# Altium footprint library Chip_kz85.PcbLib: 312 footprints (part 6 of 20)
Each footprint in its own frame and in the unit in brackets; x right, y up, seen from the top. Pads: shape width x height; smd on the part's side, far side on the other; paste and mask are expansions set on the pad; w line width, h text height; cw(c..) or ccw(c..) is an arc to the next point about the centre after c.
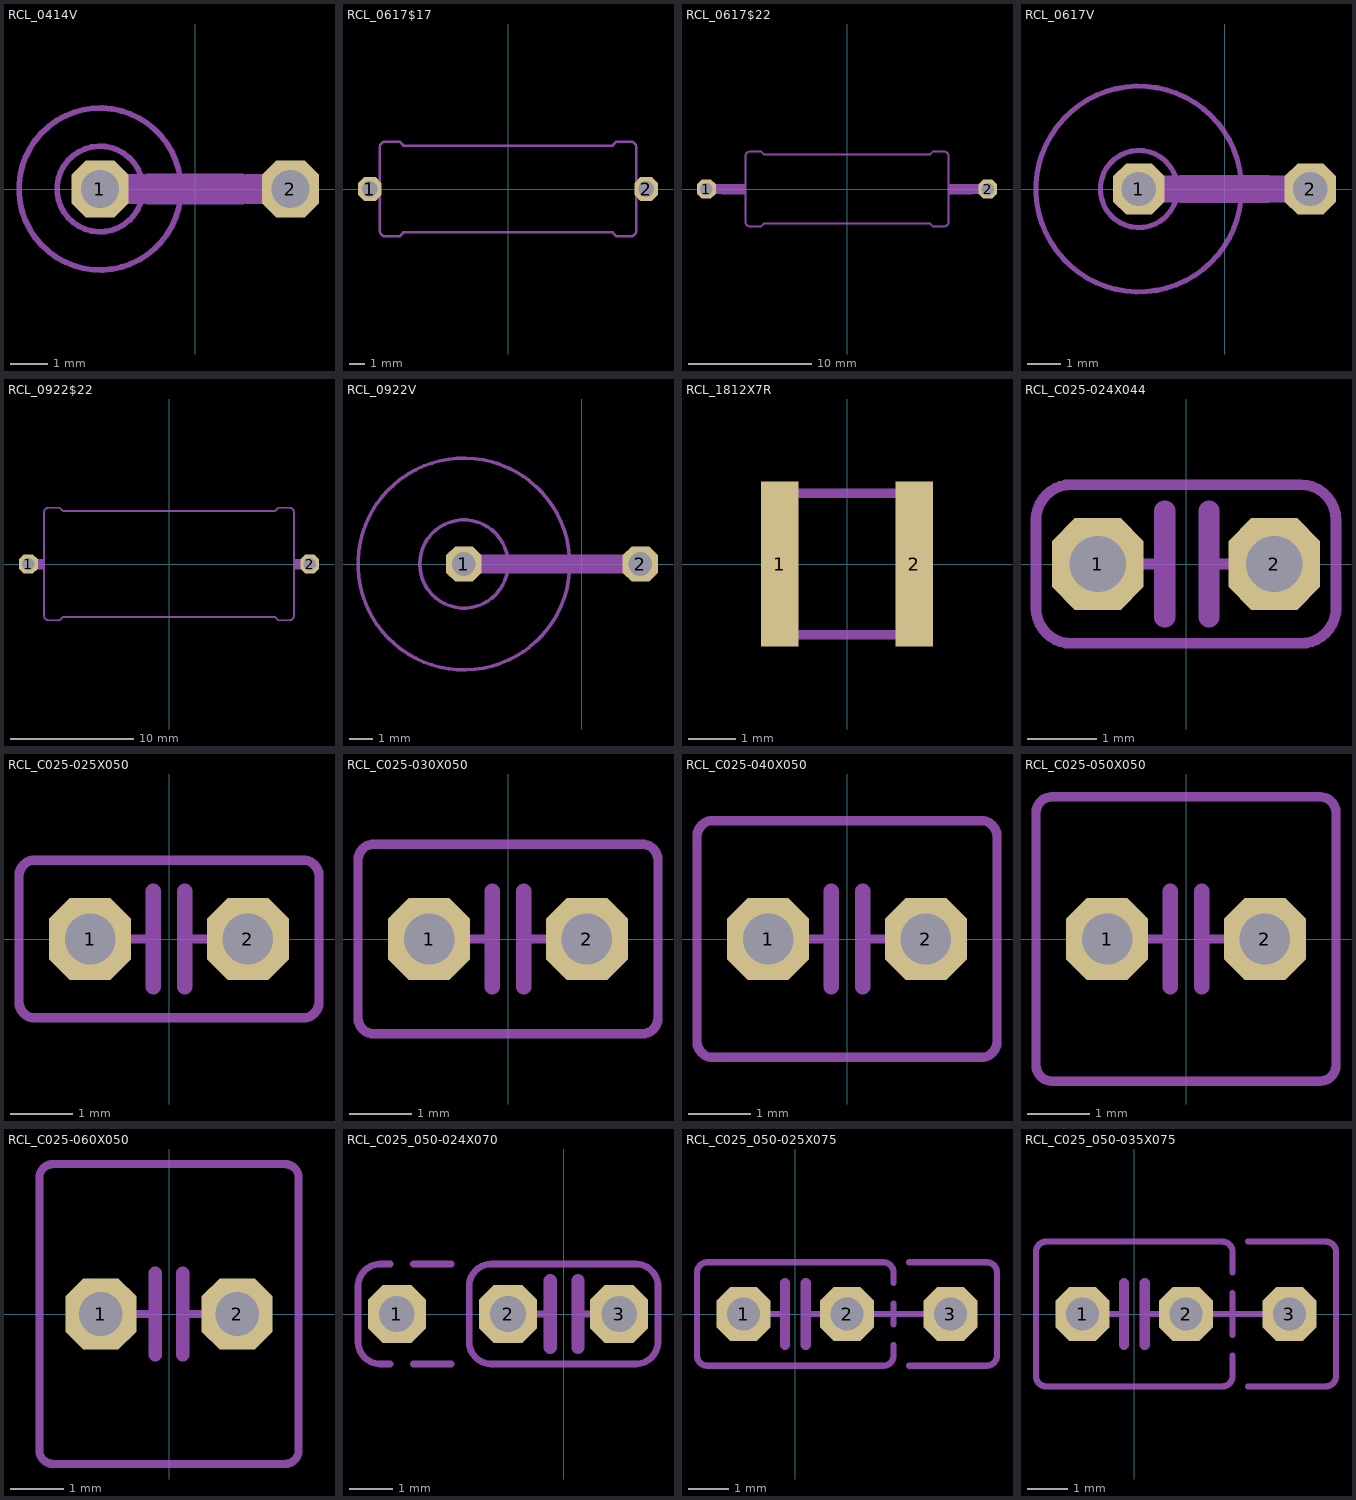
[diagram p5: the footprints below, top view; thin cyan lines are the x and y axes]

## RCL_0414V [mil]
pads (2):
  oct 60x60 / inner round 55.43 / far side oct 60x60 hole 40: 1(-100,0) 2(100,0)
Mechanical 3:
  circle w6: c-100,0 r45
  lines w32: -100,0 -55,0 ; 55,0 100,0
Mechanical 7:
  circle w6: c-100,0 r85
  region: -51,-16 -51,16 51,16 51,-16

## RCL_0617$17 [mil]
pads (2):
  oct 60x60 / inner round 55.43 / far side oct 60x60 hole 40: 1(-350,0) 2(350,0)
Mechanical 3:
  region: 324,-16 324,16 336,16 336,-16
  region: -336,-16 -336,16 -324,16 -324,-16
  lines w6: -325,-40 -325,40 ; 325,-40 325,40
  lines w32: -350,0 -340,0 ; 340,0 350,0
Mechanical 7:
  lines w6: -325,-40 -325,-105 ccw(c-310,-105) -310,-120 -275,-120 -265,-110 265,-110 275,-120 310,-120 ccw(c310,-105) 325,-105 325,-40 ; -325,40 -325,105 cw(c-310,105) -310,120 -275,120 -265,110 265,110 275,120 310,120 cw(c310,105) 325,105 325,40

## RCL_0617$22 [mil]
pads (2):
  oct 60x60 / inner round 55.43 / far side oct 60x60 hole 40: 1(-450,0) 2(450,0)
Mechanical 3:
  lines w32: -450,0 -405,0 ; 405,0 450,0
Mechanical 7:
  region: 325,-16 325,16 401,16 401,-16
  region: -401,-16 -401,16 -325,16 -325,-16
  lines w6: -325,-105 ccw(c-310,-105) -310,-120 -275,-120 -265,-110 265,-110 275,-120 310,-120 ccw(c310,-105) 325,-105 325,105 ccw(c310,105) 310,120 275,120 265,110 -265,110 -275,120 -310,120 ccw(c-310,105) -325,105 -325,-105

## RCL_0617V [mil]
pads (2):
  oct 60x60 / inner round 55.43 / far side oct 60x60 hole 40: 1(-100,0) 2(100,0)
Mechanical 3:
  circle w6: c-100,0 r45
  lines w32: -100,0 -50,0 ; 50,0 100,0
Mechanical 7:
  circle w6: c-100,0 r120
  region: -52,-16 -52,16 52,16 52,-16

## RCL_0922$22 [mil]
pads (2):
  oct 60x60 / inner round 55.43 / far side oct 60x60 hole 40: 1(-450,0) 2(450,0)
Mechanical 3:
  region: 400,-16 400,16 422,16 422,-16
  region: -422,-16 -422,16 -400,16 -400,-16
  lines w32: -450,0 -425,0 ; 425,0 450,0
Mechanical 7:
  region: -406,-16 -406,16 -400,16 -400,-16
  region: 400,-16 400,16 406,16 406,-16
  lines w6: -400,-165 ccw(c-385,-165) -385,-180 -350,-180 -340,-170 340,-170 350,-180 385,-180 ccw(c385,-165) 400,-165 400,165 ccw(c385,165) 385,180 350,180 340,170 -340,170 -350,180 -385,180 ccw(c-385,165) -400,165 -400,-165

## RCL_0922V [mil]
pads (2):
  oct 60x60 / inner round 55.43 / far side oct 60x60 hole 40: 1(-200,0) 2(100,0)
Mechanical 3:
  lines w32: -200,0 -150,0 ; 55,0 100,0
Mechanical 7:
  circle w6: c-200,0 r75
  circle w6: c-200,0 r180
  region: -150,-16 -150,16 52,16 52,-16
  text "0922" at -270,100 h62

## RCL_1812X7R [mil]
pads (2):
  rect 31.5x137.8 smd: 1(-56.1,0) 2(56.1,0)
Mechanical 3:
  region: 55.12,62.99 55.12,-62.99 43.31,-62.99 43.31,62.99
  region: -55.12,-62.99 -55.12,62.99 -43.31,62.99 -43.31,-62.99
  lines w8: -43.31,-59.06 43.31,-59.06 ; -43.31,59.06 43.31,59.06
Mechanical 7:
  lines w8: -23.62,-59.06 23.62,-59.06 ; -23.62,59.06 23.62,59.06

## RCL_C025-024X044 [mil]
pads (2):
  oct 52x52 / inner round 48.04 / far side oct 52x52 hole 32: 1(-50,0) 2(50,0)
Mechanical 3:
  lines w6: -50,0 -12,0 ; 13,0 50,0
Mechanical 7:
  lines w6: -85,-25 ccw(c-65,-25) -65,-45 65,-45 ccw(c65,-25) 85,-25 85,25 ccw(c65,25) 65,45 -65,45 ccw(c-65,25) -85,25 -85,-25
  lines w12: -12,-30 -12,30 ; 13,-30 13,30

## RCL_C025-025X050 [mil]
pads (2):
  oct 52x52 / inner round 48.04 / far side oct 52x52 hole 32: 1(-50,0) 2(50,0)
Mechanical 3:
  lines w6: -30,0 -15,0 ; 15,0 30,0
Mechanical 7:
  lines w6: -15,0 -10,0 ; 10,0 15,0 ; -95,-40 ccw(c-85,-40) -85,-50 85,-50 ccw(c85,-40) 95,-40 95,40 ccw(c85,40) 85,50 -85,50 ccw(c-85,40) -95,40 -95,-40
  lines w10: -10,-30 -10,0 -10,30 ; 10,-30 10,0 10,30

## RCL_C025-030X050 [mil]
pads (2):
  oct 52x52 / inner round 48.04 / far side oct 52x52 hole 32: 1(-50,0) 2(50,0)
Mechanical 3:
  lines w6: -30,0 -15,0 ; 15,0 30,0
Mechanical 7:
  lines w6: -15,0 -10,0 ; 10,0 15,0 ; -95,-50 ccw(c-85,-50) -85,-60 85,-60 ccw(c85,-50) 95,-50 95,50 ccw(c85,50) 85,60 -85,60 ccw(c-85,50) -95,50 -95,-50
  lines w10: -10,-30 -10,0 -10,30 ; 10,-30 10,0 10,30

## RCL_C025-040X050 [mil]
pads (2):
  oct 52x52 / inner round 48.04 / far side oct 52x52 hole 32: 1(-50,0) 2(50,0)
Mechanical 3:
  lines w6: -30,0 -15,0 ; 15,0 30,0
Mechanical 7:
  lines w6: -15,0 -10,0 ; 10,0 15,0 ; -95,-65 ccw(c-85,-65) -85,-75 85,-75 ccw(c85,-65) 95,-65 95,65 ccw(c85,65) 85,75 -85,75 ccw(c-85,65) -95,65 -95,-65
  lines w10: -10,-30 -10,0 -10,30 ; 10,-30 10,0 10,30

## RCL_C025-050X050 [mil]
pads (2):
  oct 52x52 / inner round 48.04 / far side oct 52x52 hole 32: 1(-50,0) 2(50,0)
Mechanical 3:
  lines w6: -30,0 -15,0 ; 15,0 30,0
Mechanical 7:
  lines w6: -15,0 -10,0 ; 10,0 15,0 ; -95,-80 ccw(c-85,-80) -85,-90 85,-90 ccw(c85,-80) 95,-80 95,80 ccw(c85,80) 85,90 -85,90 ccw(c-85,80) -95,80 -95,-80
  lines w10: -10,-30 -10,0 -10,30 ; 10,-30 10,0 10,30

## RCL_C025-060X050 [mil]
pads (2):
  oct 52x52 / inner round 48.04 / far side oct 52x52 hole 32: 1(-50,0) 2(50,0)
Mechanical 3:
  lines w6: -30,0 -15,0 ; 15,0 30,0
Mechanical 7:
  lines w6: -15,0 -10,0 ; 10,0 15,0 ; -95,-100 ccw(c-85,-100) -85,-110 85,-110 ccw(c85,-100) 95,-100 95,100 ccw(c85,100) 85,110 -85,110 ccw(c-85,100) -95,100 -95,-100
  lines w10: -10,-30 -10,0 -10,30 ; 10,-30 10,0 10,30

## RCL_C025_050-024X070 [mil]
pads (3):
  oct 52x52 / inner round 48.04 / far side oct 52x52 hole 32: 1(-150,0) 2(-50,0) 3(50,0)
Mechanical 3:
  lines w6: -85,-25 -85,25 ; -50,0 -12,0 ; 13,0 50,0 ; 85,-25 85,25
Mechanical 7:
  lines w6: -156,-45 -165,-45 cw(c-165,-25) -185,-25 -185,25 cw(c-165,25) -165,45 -156,45 ; -135,-45 -101,-45 ; -135,45 -101,45 ; -85,-25 ccw(c-65,-25) -65,-45 65,-45 ccw(c65,-25) 85,-25 ; -85,25 cw(c-65,25) -65,45 65,45 cw(c65,25) 85,25
  lines w12: -12,-30 -12,30 ; 13,-30 13,30

## RCL_C025_050-025X075 [mil]
pads (3):
  oct 52x52 / inner round 48.04 / far side oct 52x52 hole 32: 1(-50,0) 2(50,0) 3(150,0)
Mechanical 3:
  lines w6: -30,0 -15,0 ; 15,0 30,0 ; 70,0 90,0 ; 110,0 130,0
Mechanical 7:
  lines w6: -15,0 -10,0 ; 10,0 15,0 ; 90,0 110,0 ; 95,-30 95,-40 cw(c85,-40) 85,-50 -85,-50 cw(c-85,-40) -95,-40 -95,40 cw(c-85,40) -85,50 85,50 cw(c85,40) 95,40 95,30 ; 95,-10 95,10 ; 110,-50 185,-50 ccw(c185,-40) 195,-40 195,40 ccw(c185,40) 185,50 110,50
  lines w10: -10,-30 -10,0 -10,30 ; 10,-30 10,0 10,30

## RCL_C025_050-035X075 [mil]
pads (3):
  oct 52x52 / inner round 48.04 / far side oct 52x52 hole 32: 1(-50,0) 2(50,0) 3(150,0)
Mechanical 3:
  lines w6: -30,0 -15,0 ; 15,0 30,0 ; 70,0 90,0 ; 110,0 130,0
Mechanical 7:
  lines w6: -15,0 -10,0 ; 10,0 15,0 ; 90,0 110,0 ; 95,-40 95,-60 cw(c85,-60) 85,-70 -85,-70 cw(c-85,-60) -95,-60 -95,60 cw(c-85,60) -85,70 85,70 cw(c85,60) 95,60 95,40 ; 95,-20 95,20 ; 110,-70 185,-70 ccw(c185,-60) 195,-60 195,60 ccw(c185,60) 185,70 110,70
  lines w10: -10,-30 -10,0 -10,30 ; 10,-30 10,0 10,30